# EAGLE library part ATSAMD10D14A (library Plant Reminder)
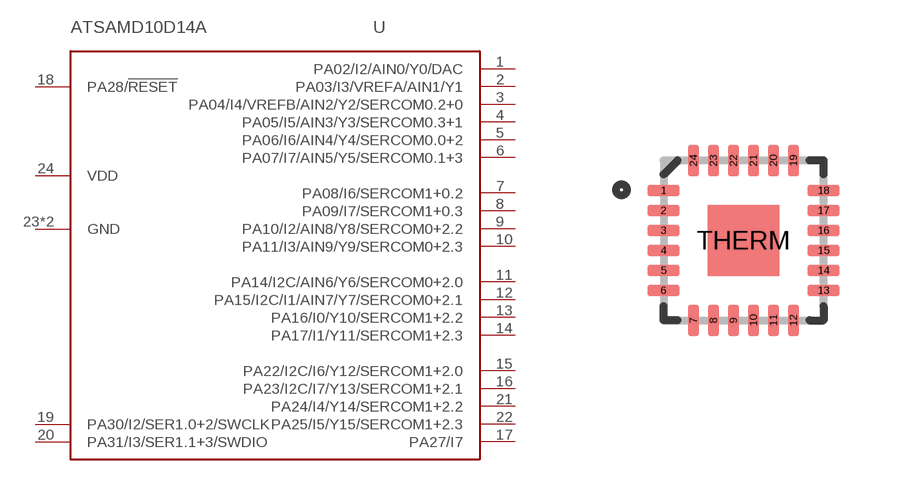
[diagram p1: symbol with the pads of QFN24_4MM; footprint QFN24_4MM]

Designator prefix -

## ATSAMD10D14A  [QFN24_4MM]
1  PA02/I2/AIN0/Y0/DAC
2  PA03/I3/VREFA/AIN1/Y1
3  PA04/I4/VREFB/AIN2/Y2/SERCOM0.2+0
4  PA05/I5/AIN3/Y3/SERCOM0.3+1
5  PA06/I6/AIN4/Y4/SERCOM0.0+2
6  PA07/I7/AIN5/Y5/SERCOM0.1+3
7  PA08/I6/SERCOM1+0.2
8  PA09/I7/SERCOM1+0.3
9  PA10/I2/AIN8/Y8/SERCOM0+2.2
10  PA11/I3/AIN9/Y9/SERCOM0+2.3
11  PA14/I2C/AIN6/Y6/SERCOM0+2.0
12  PA15/I2C/I1/AIN7/Y7/SERCOM0+2.1
13  PA16/I0/Y10/SERCOM1+2.2
14  PA17/I1/Y11/SERCOM1+2.3
15  PA22/I2C/I6/Y12/SERCOM1+2.0
16  PA23/I2C/I7/Y13/SERCOM1+2.1
17  PA27/I7
18  PA28/!RESET
19  PA30/I2/SER1.0+2/SWCLK
20  PA31/I3/SER1.1+3/SWDIO
21  PA24/I4/Y14/SERCOM1+2.2
22  PA25/I5/Y15/SERCOM1+2.3
23  GND  pwr
24  VDD  pwr
THERM  GND  pwr

## Footprint QFN24_4MM (pad centres in mm)
smd 0.8 x 0.28: 1 -2,1.25; 2 -2,0.75; 3 -2,0.25; 4 -2,-0.25; 5 -2,-0.75; 6 -2,-1.25; 13 2,-1.25; 14 2,-0.75; 15 2,-0.25; 16 2,0.25; 17 2,0.75; 18 2,1.25
smd 0.28 x 0.8: 7 -1.25,-2; 8 -0.75,-2; 9 -0.25,-2; 10 0.25,-2; 11 0.75,-2; 12 1.25,-2; 19 1.25,2; 20 0.75,2; 21 0.25,2; 22 -0.25,2; 23 -0.75,2; 24 -1.25,2
smd 1.778 x 1.778: THERM 0,0